# Altium footprint library Crystal.PcbLib: 17 footprints (part 1 of 2)
Each footprint in its own frame and in the unit in brackets; x right, y up, seen from the top. Pads: shape width x height; smd on the part's side, far side on the other; paste and mask are expansions set on the pad; w line width, h text height; cw(c..) or ccw(c..) is an arc to the next point about the centre after c.
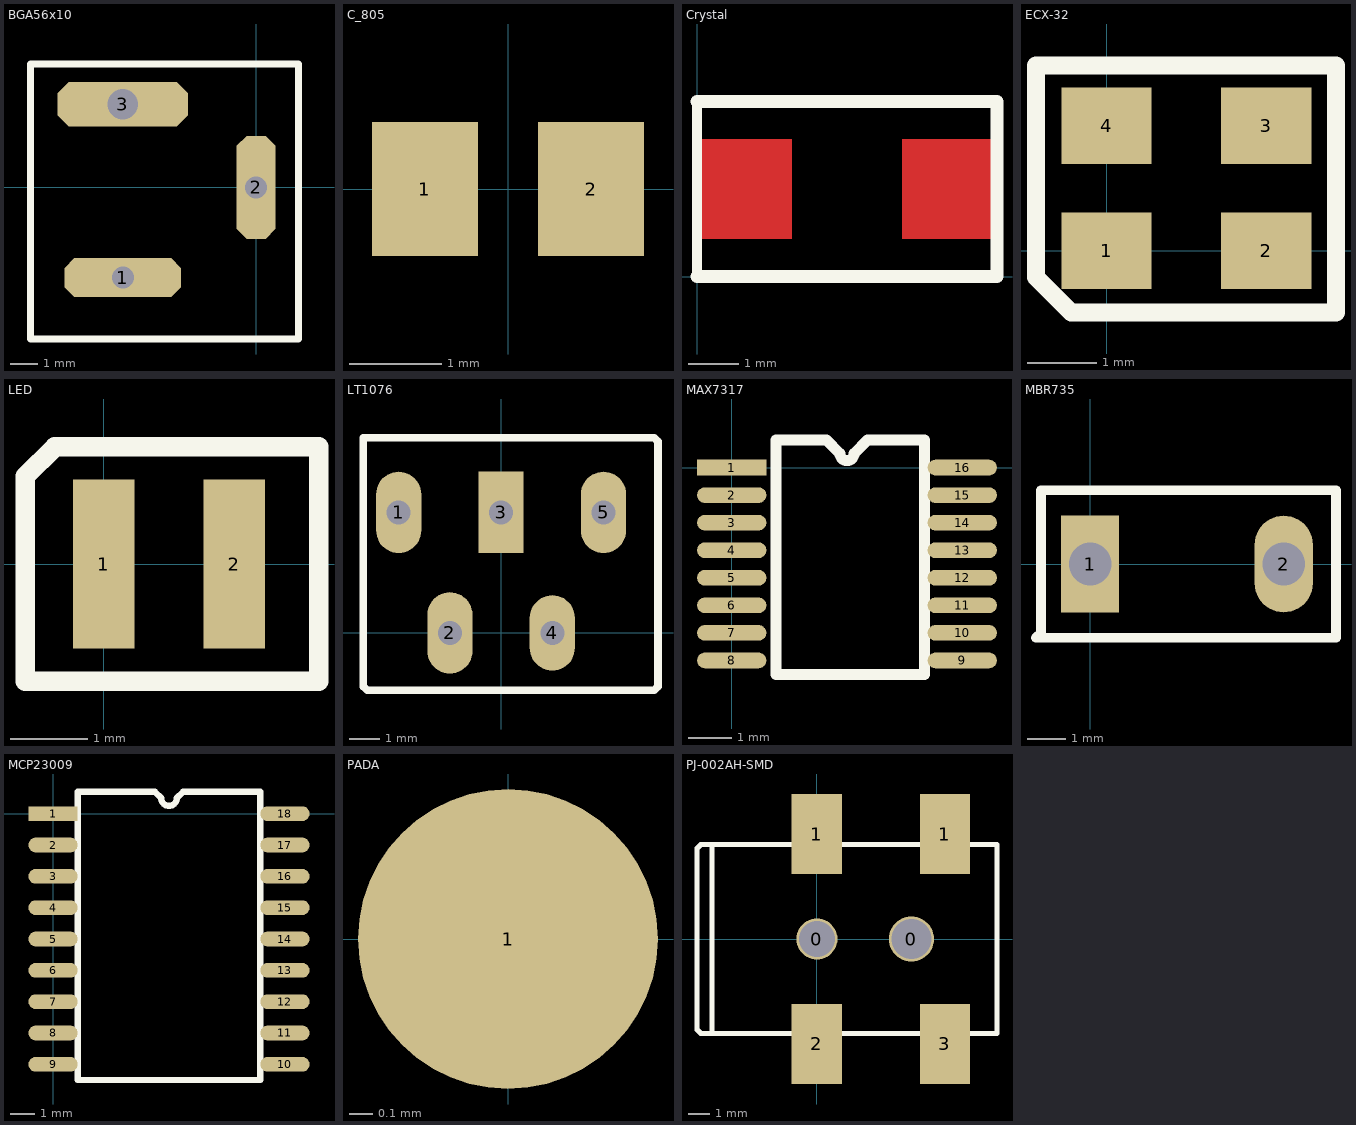
[diagram p0: the footprints below, top view; thin cyan lines are the x and y axes]

## Axial 0.6 [mm]

## BGA56x10 [mm]
pads (3):
  oct 4.2x1.4 hole 0.8 square: 1(-4.8,-3.25)
  oct 1.4x3.7 hole 0.8 square: 2(0,0)
  oct 4.7x1.6 hole 1.1 square: 3(-4.8,3)
Top Overlay:
  lines w0.254: -8.128,-5.461 1.524,-5.461 1.524,4.445 -8.128,4.445 -8.128,-5.461

## C_805 [mm]
pads (2):
  rect 1.15x1.45 smd: 1(-0.9,0) 2(0.9,0)

## Crystal [mm]
Top Layer:
  rectangle: 4.1,0.75 6,2.75
  rectangle: 0,0.75 1.9,2.75
Top Overlay:
  lines w0.2: 0,0 0,3.5
  lines w0.254: 0,0 6,0 6,3.5 0,3.5

## ECX-32 [mm]
pads (4):
  rect 1.3x1.1 smd: 1(0,0) 2(2.3,0) 3(2.3,1.8) 4(0,1.8)
Top Overlay:
  lines w0.254: -1.016,-0.381 -0.508,-0.889 3.302,-0.889 3.302,2.667 -1.016,2.667 -1.016,-0.381

## LED [mm]
pads (2):
  rect 0.8x2.2 smd: 1(0,0) 2(1.7,0)
Top Overlay:
  lines w0.254: -1.016,-1.524 2.794,-1.524 2.794,-1.016 2.794,1.524 -0.635,1.524 -1.016,1.143 -1.016,-1.524

## LT1076 [mm]
pads (5):
  oval 1.5x2.7 hole 0.8: 1(-3.4,4) 2(-1.7,0) 5(3.4,4)
  rect 1.5x2.7 hole 0.8: 3(0,4)
  oval 1.5x2.5 hole 0.8: 4(1.7,0)
Top Overlay:
  lines w0.254: -4.572,-1.778 -4.572,6.477 -4.318,6.477 5.08,6.477 5.207,6.35 5.207,-1.778 5.08,-1.905 -4.445,-1.905 -4.572,-1.778

## MAX7317 [mm]
pads (16):
  rect 1.6x0.36 smd: 1(0,0)
  oval 1.6x0.36 smd: 2(0,-0.635) 3(0,-1.27) 4(0,-1.905) 5(0,-2.54) 6(0,-3.175) 7(0,-3.81) 8(0,-4.445) 9(5.31,-4.445) 10(5.31,-3.81) 11(5.31,-3.175) 12(5.31,-2.54) 13(5.31,-1.905) 14(5.31,-1.27) 15(5.31,-0.635) 16(5.31,0)
Top Overlay:
  lines w0.254: 1.016,-4.763 4.445,-4.763 4.445,0.635 3.131,0.635 2.814,0.318 cw(c2.655,0.318) 2.496,0.318 2.179,0.635 1.016,0.635 1.016,-4.763

## MBR735 [mm]
pads (2):
  rect 1.5x2.5 hole 1.1: 1(0,0)
  oval 1.5x2.5 hole 1.1: 2(5,0)
Top Overlay:
  lines w0.254: -1.397,-1.905 -1.27,-1.778 -1.27,1.905 6.35,1.905 6.35,-1.905 -1.397,-1.905

## MCP23009 [mm]
pads (18):
  rect 2x0.6 smd: 1(0,0)
  oval 2x0.6 smd: 2(0,-1.27) 3(0,-2.54) 4(0,-3.81) 5(0,-5.08) 6(0,-6.35) 7(0,-7.62) 8(0,-8.89) 9(0,-10.16) 10(9.4,-10.16) 11(9.4,-8.89) 12(9.4,-7.62) 13(9.4,-6.35) 14(9.4,-5.08) 15(9.4,-3.81) 16(9.4,-2.54) 17(9.4,-1.27) 18(9.4,0)
Top Overlay:
  lines w0.254: 1,-10.795 1,0.889 4.128,0.889 4.382,0.635 ccw(c4.7,0.635) 5.017,0.635 5.271,0.889 8.4,0.889 8.4,-10.795 1,-10.795

## PAD [mm]

## PADA [mm]
pads (1):
  round 1.27 smd: 1(0,0)

## PCBComponent_1 [mm]

## PCBComponent_1 - duplicate [mm]

## PCBComponent_1 - duplicate1 [mm]

## PJ-002AH-SMD [mm]
pads (6):
  round 1.954 hole 1.7: 0(0,0)
  round 2.154 hole 1.9: 0(4.5,0)
  rect 2.4x3.8 smd: 1(0,5) 1(6.1,5) 2(0,-5) 3(6.1,-5)
Top Overlay:
  lines w0.254: 8.581,-4.5 -3.81,-4.5 -5,-4.5 ; 8.581,-4.428 8.581,4.5 -3.81,4.5 -5,4.5 ; -5,-4.5 -5,4.5 ; -5,-4.5 -5.533,-4.5 -5.715,-4.318 -5.715,4.318 -5.533,4.5 -5,4.5